# Altium schematic symbol library Schlib1.SchLib: 10 symbols
Pins are listed as number, name and electrical type; pins without a type are passive.

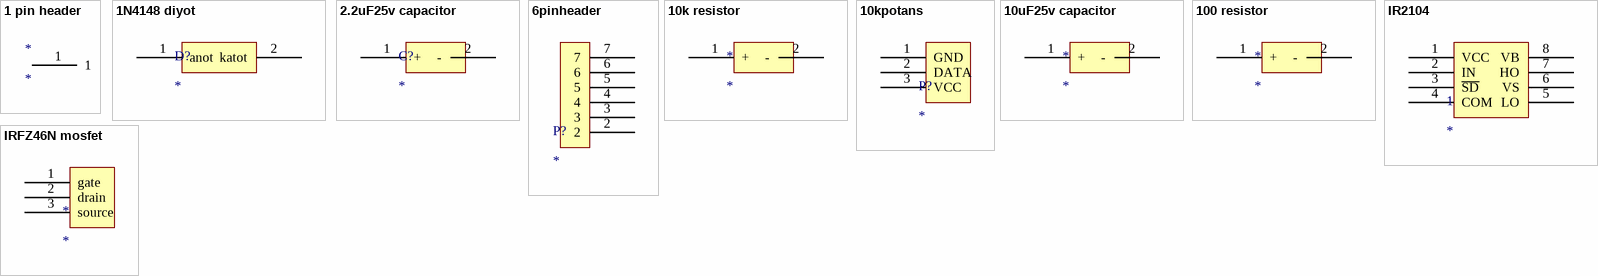
[diagram p0: symbols 1 pin header to IRFZ46N mosfet]

## 1 pin header
designator *
footprint 1pinheader
pins: 1

## 1N4148 diyot
designator D?
footprint 1N4148 diyot
pins: 1 anot, 2 katot

## 2.2uF25v capacitor
designator C?
footprint 2.2uf25v capacitor
pins: 1 +, 2 -

## 6pinheader
designator P?
footprint 6pinheader
pins: 2, 3, 4, 5, 6, 7

## 10k resistor
designator *
footprint 10k resistor
pins: 1 +, 2 -

## 10kpotans
designator P?
footprint 10Kpotans
pins: 1 GND, 2 DATA, 3 VCC

## 10uF25v capacitor
designator *
footprint 10uf25V capacitor
pins: 1 +, 2 -

## 100 resistor
designator *
footprint 100 resistor
pins: 1 +, 2 -

## IR2104
designator 1
footprint IR2104 mos sürücü (SOIC, 8-Leads, Body 4,90x3,90mm, Pitch 1,27mm, IPC Medium Density)
pins: 1 VCC, 2 IN, 3 ~{SD}, 4 COM, 5 LO, 6 VS, 7 HO, 8 VB

## IRFZ46N mosfet
designator *
footprint IRFZ46N mosfet
pins: 1 gate, 2 drain, 3 source